# Altium footprint library TF.PcbLib: 4 footprints
Each footprint in its own frame and in the unit in brackets; x right, y up, seen from the top. Pads: shape width x height; smd on the part's side, far side on the other; paste and mask are expansions set on the pad; w line width, h text height; cw(c..) or ccw(c..) is an arc to the next point about the centre after c.
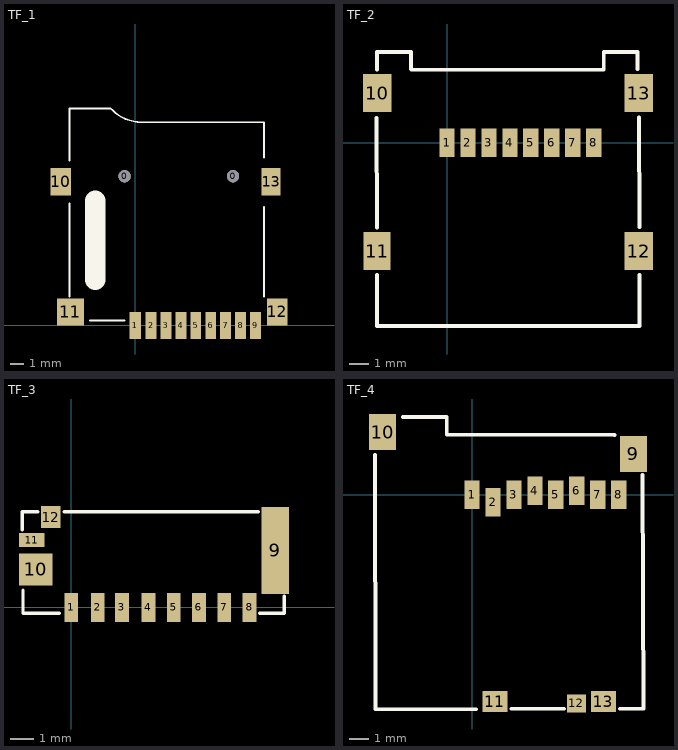
[diagram p0: the footprints below, top view; thin cyan lines are the x and y axes]

## TF_1 [mm]
pads (15):
  round 0.9 hole 0.9 unplated: 0(-0.8,11) 0(7.2,11)
  rect 0.85x2 smd: 1(0,0)
  rect 0.8x2 smd: 2(1.15,0) 3(2.25,0) 4(3.35,0) 5(4.45,0) 6(5.55,0) 7(6.65,0) 8(7.75,0) 9(8.85,0)
  rect 1.5x2 smd: 10(-5.5,10.6) 12(10.45,1)
  rect 2x2 smd: 11(-4.8,1)
  rect 1.4x2 smd: 13(10,10.6)
Top Overlay:
  lines w0.127: -4.865,12.143 -4.865,15 ; -4.865,14.683 -4.865,16 -1.816,16 -1.714,15.898 ccw(c0.454,18.066) 0.454,15 1.74,15 9.486,15 9.486,12.397 ; -4.862,2.138 -4.862,8.996 ; 9.489,2.138 9.489,8.742
  lines w0.15: -3.338,0.36 -0.798,0.36
  lines w1.5: -2.959,3.38 -2.959,9.222
3D body "User Library-112J-TXAR-R_C_1-1.STEP": height 1.85, standoff -0.6, extent -5.85,-0.001 10.25,15.001

## TF_2 [mm]
pads (12):
  rect 0.8x1.5 smd: 1(0,0) 2(1.1,0) 3(2.2,0) 4(3.3,0) 5(4.4,0) 6(5.5,0) 7(6.6,0) 8(7.7,0)
  rect 1.5x2 smd: 10(-3.675,2.6) 12(10.075,-5.7) 13(10.075,2.6)
  rect 1.4x2 smd: 11(-3.675,-5.7)
Top Overlay:
  lines w0.2: -3.7,1.3 -3.675,-4.475 ; -3.675,-6.95 -3.675,-9.625 10.1,-9.625 10.1,-6.95 ; -3.675,3.825 -3.675,4.725 ; -3.675,4.75 -1.9,4.75 -1.9,3.85 ; -1.875,3.825 8.225,3.825 8.225,4.725 ; 8.225,4.75 10,4.75 10,3.85 ; 10.075,1.325 10.1,-4.45
3D body "MicroSD_socket_Hinge_type.STEP": height 1.83, standoff 0, extent -4,-9.6 10.5,4.7

## TF_3 [mm]
pads (12):
  rect 0.6x1.25 smd: 1(0,0) 2(1.15,0) 3(2.2,0) 4(3.35,0) 5(4.45,0) 6(5.55,0) 7(6.65,0) 8(7.75,0)
  rect 1.2x3.79 smd: 9(8.875,2.48)
  rect 1.45x1.4 smd: 10(-1.55,1.655)
  rect 1.1x0.6 smd: 11(-1.725,2.93)
  rect 0.85x0.95 smd: 12(-0.9,3.93)
Top Overlay:
  lines w0.15: -2.125,3.38 -2.125,4.155 -1.45,4.155 ; -2.1,0.755 -2.1,-0.245 -0.525,-0.245 ; -0.3,4.155 8.125,4.155 ; 8.2,-0.245 9.25,-0.245 9.25,0.48
3D body "473090285.stp": height 2.8, standoff -0.05, extent -2.125,-1.345 9.275,4.155

## TF_4 [mm]
pads (13):
  rect 0.8x1.5 smd: 1(0,0) 2(1.1,-0.4) 3(2.2,0) 4(3.3,0.2) 5(4.4,0) 6(5.5,0.2) 7(6.6,0) 8(7.7,0)
  rect 1.4x1.9 smd: 9(8.475,2.14) 10(-4.7,3.29)
  rect 1.3x1.1 smd: 11(1.2,-10.86) 13(6.9,-10.86)
  rect 1x0.95 smd: 12(5.475,-10.95)
Top Overlay:
  lines w0.2: -5.1,2.09 -5.075,-11.26 0.225,-11.26 ; -3.625,4.075 -1.325,4.075 -1.325,3.149 7.475,3.14 ; 2.075,-11.235 4.825,-11.235 ; 7.775,-11.235 9.003,-11.235 8.95,1.04
3D body "473521001_microSD.stp": height 1.9, standoff 0.02, extent -5.075,-11.31 9.025,3.89